# Altium footprint library Orion Sleep - Control Board - Rev 2.PcbLib: 102 footprints (part 7 of 7)
Each footprint in its own frame and in the unit in brackets; x right, y up, seen from the top. Pads: shape width x height; smd on the part's side, far side on the other; paste and mask are expansions set on the pad; w line width, h text height; cw(c..) or ccw(c..) is an arc to the next point about the centre after c.
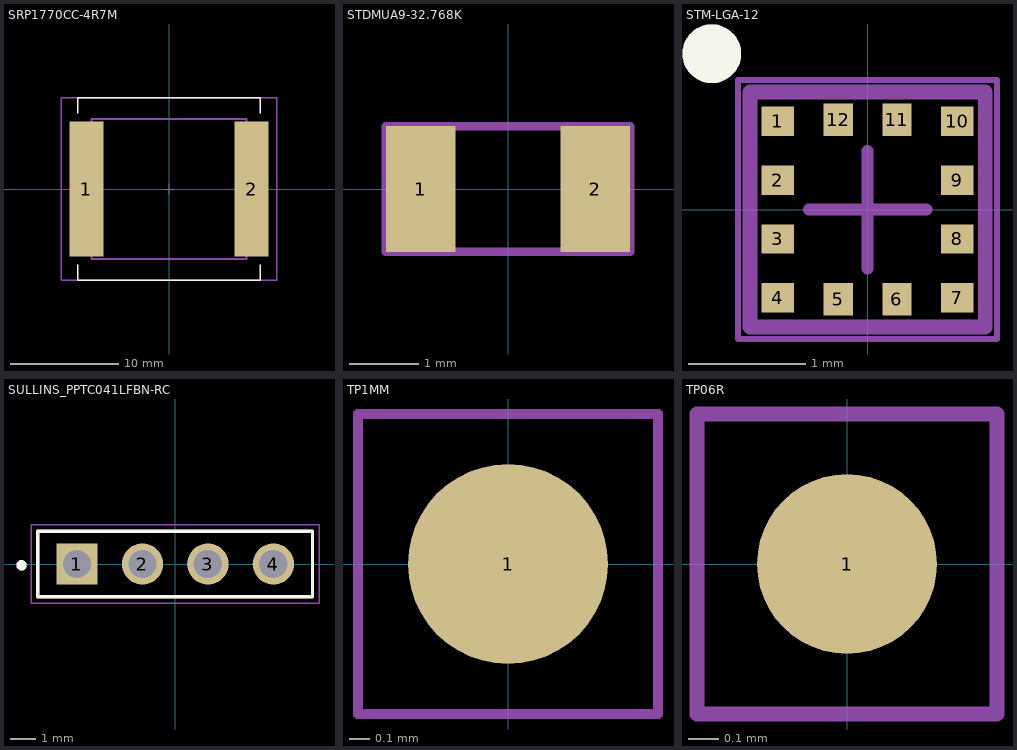
[diagram p6: the footprints below, top view; thin cyan lines are the x and y axes]

## SRP1770CC-4R7M [mm]
height 7
pads (2):
  rect 3.15x12.5 smd: 1(-7.675,0) 2(7.675,0)
Top Overlay:
  lines w0.127: -8.45,-7.05 -8.45,-8.45 8.45,-8.45 8.45,-7.05 ; -8.45,7.05 -8.45,8.45 8.45,8.45 8.45,7.05
Top Assembly:
  lines w0.127: -10,-8.45 -10,8.45 10,8.45 10,-8.45 -10,-8.45
  text ".Designator" at -9.997,-0.666 h2
Top Courtyard:
  lines w0.2: -7.2,-6.5 -7.2,6.5 7.2,6.5 7.2,-6.5 -7.2,-6.5
Top Component Center:
  lines w0.1: -0.5,0 0.5,0 ; 0,-0.5 0,0.5
3D body "3D_SRP1770CC SERIES (1).stp": height 6.72, standoff 0.01, extent -8.8,-8.45 8.8,8.45

## STDMUA9-32.768K [mm]
pads (2):
  rect 1x1.8 smd: 1(-1.25,0) 2(1.25,0)
Top Assembly:
  lines w0.127: -1.75,-0.9 1.75,-0.9 1.75,0.9 -1.75,0.9 -1.75,-0.9
  text ".Designator" at -4.998,-0.333 h1
3D body "STDMUA9-32.768K.STEP": height 0.9, standoff 0, extent -1.58,-0.762 1.62,0.738

## STM-LGA-12 [mm] "LGA, 12-Leads, Body 2x2mm, Pitch 0.5mm"
height 1
pads (12):
  rect 0.275x0.25 smd mask+0.05: 1(-0.763,0.75) 2(-0.763,0.25) 3(-0.763,-0.25) 4(-0.763,-0.75) 7(0.763,-0.75) 8(0.763,-0.25) 9(0.763,0.25) 10(0.763,0.75)
  rect 0.25x0.275 smd mask+0.05: 5(-0.25,-0.762) 6(0.25,-0.762) 11(0.25,0.763) 12(-0.25,0.763)
Top Overlay:
  circle w0.25: c-1.325,1.325 r0.125
Top Assembly:
  circle w0.25: c-1.325,1.325 r0.125
  lines w0.127: -1,-1 -1,1 1,1 1,-1 -1,-1
  text ".Designator" at -2.499,-0.167 h0.5
Top Courtyard:
  lines w0.05: -1.1,-1.1 -1.1,1.1 1.1,1.1 1.1,-1.1 -1.1,-1.1
  lines w0.1: -0.5,0 0.5,0 ; 0,-0.5 0,0.5
3D body: height 1, standoff 0, extent -1,-1 1,1

## SULLINS_PPTC041LFBN-RC [mm]
height 8.5
pads (4):
  rect 1.605x1.605 / inner round 1.605 / far side rect 1.605x1.605 hole 1.1: 1(-3.81,0)
  round 1.605 hole 1.1: 2(-1.27,0) 3(1.27,0) 4(3.81,0)
Top Overlay:
  circle w0.2: c-5.96,-0.05 r0.1
  lines w0.127: -5.33,-1.27 5.33,-1.27 5.33,1.27 -5.33,1.27 -5.33,-1.27
Top Assembly:
  circle w0.2: c-5.96,-0.05 r0.1
  lines w0.127: -5.33,-1.27 5.33,-1.27 5.33,1.27 -5.33,1.27 -5.33,-1.27
  text ".Designator" at -7.618,-0.508 h1.52
Top Courtyard:
  lines w0.05: -5.58,-1.52 5.58,-1.52 5.58,1.52 -5.58,1.52 -5.58,-1.52
3D body "step_temp.STEP": height 8.51, standoff -3.2, extent -5.334,-1.27 5.334,1.27

## TP1MM [mm] "Testpoint, round, d=1mm"
pads (1):
  round 1 smd paste-2539.97: 1(0,0)
Top Assembly:
  lines w0.05: -0.75,-0.75 -0.75,0.75 0.75,0.75 0.75,-0.75 -0.75,-0.75
  text ".Designator" at -1.5,-0.1 h0.3

## TP06R [mm] "Testpoint, round, d=0.6mm"
pads (1):
  round 0.6 smd paste-2539.97: 1(0,0)
Top Assembly:
  lines w0.05: -0.5,-0.5 -0.5,0.5 0.5,0.5 0.5,-0.5 -0.5,-0.5
  text ".Designator" at -3.499,0.767 h0.7